# Altium footprint library 2.03-TSSOP封装.PcbLib: 49 footprints (part 2 of 4)
Each footprint in its own frame and in the unit in brackets; x right, y up, seen from the top. Pads: shape width x height; smd on the part's side, far side on the other; paste and mask are expansions set on the pad; w line width, h text height; cw(c..) or ccw(c..) is an arc to the next point about the centre after c.
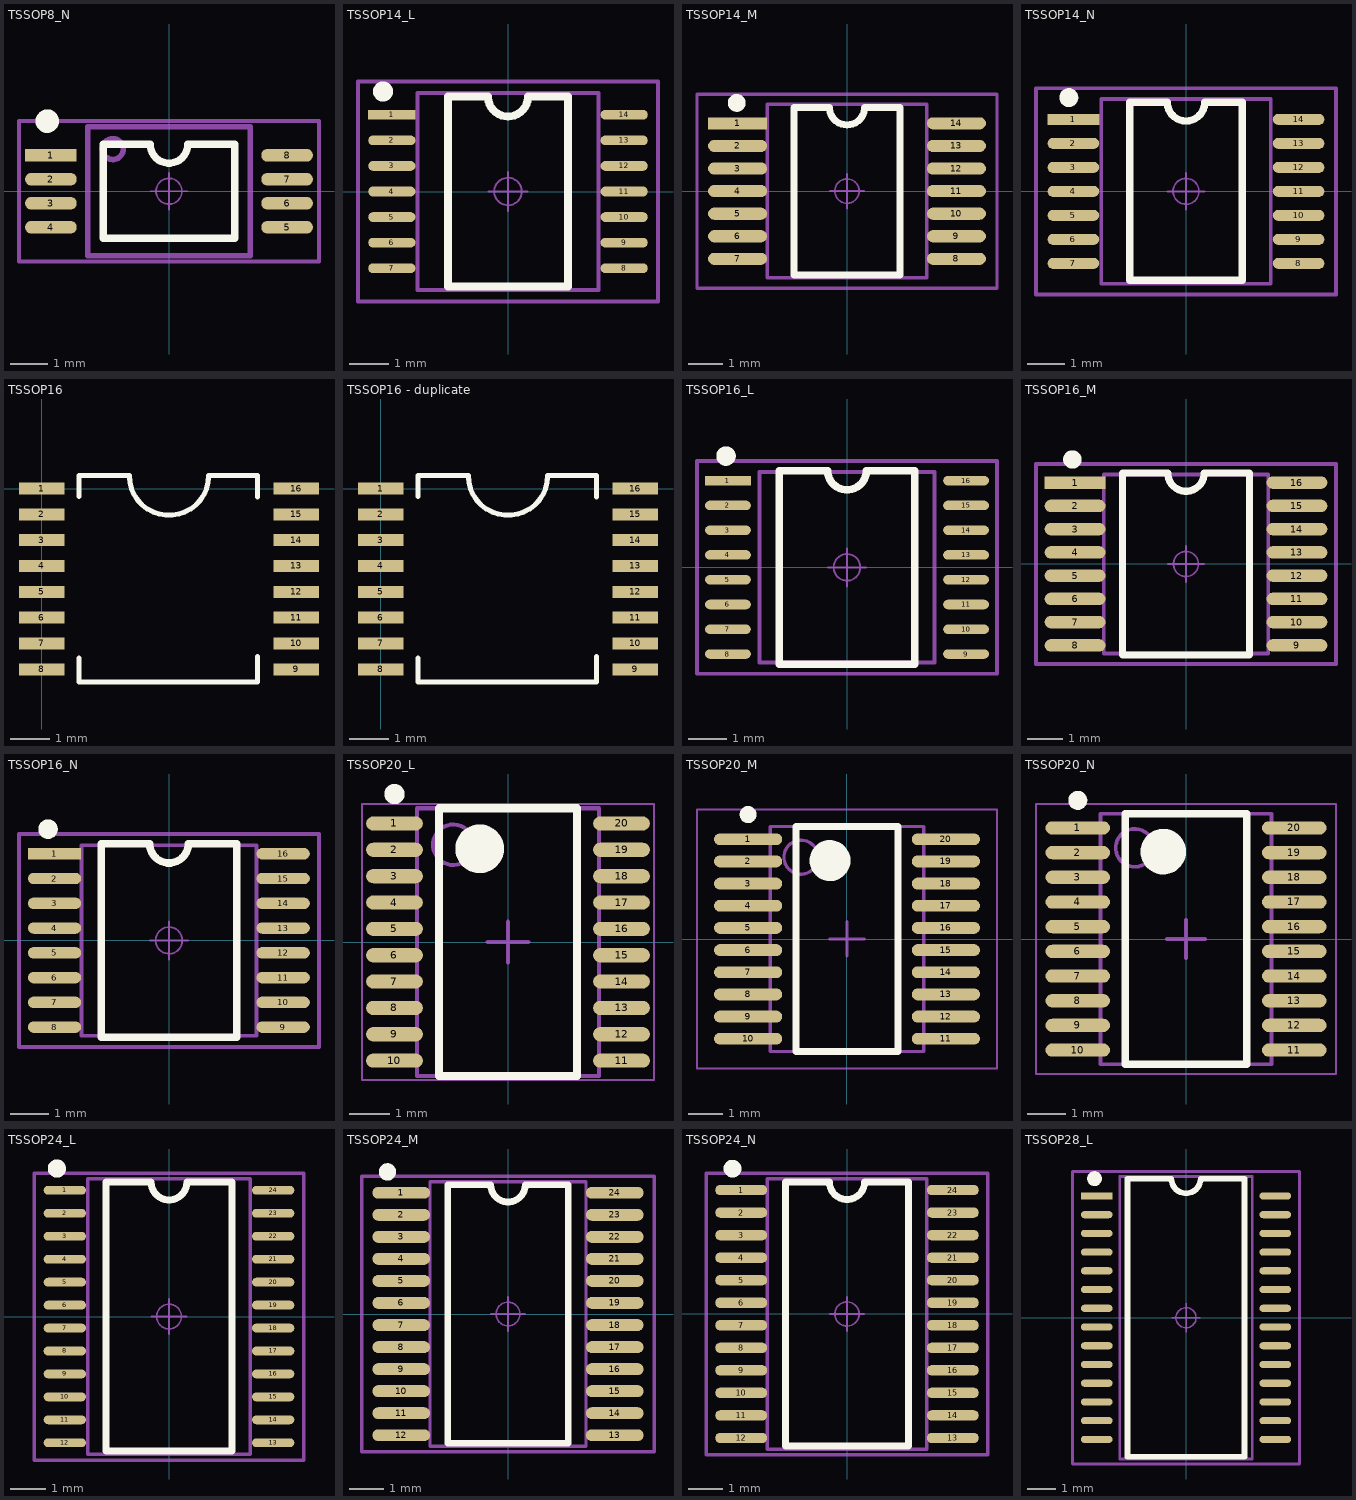
[diagram p1: the footprints below, top view; thin cyan lines are the x and y axes]

## TSSOP8_N [mm] "3*6.4*1.2mm（长宽高）封装库来自淘宝卖家 ID：黄晶宝石"
pads (8):
  rect 1.4x0.35 smd: 1(-3.2,0.975)
  oval 1.4x0.35 smd: 2(-3.2,0.325) 3(-3.2,-0.325) 4(-3.2,-0.975) 5(3.2,-0.975) 6(3.2,-0.325) 7(3.2,0.325) 8(3.2,0.975)
Top Overlay:
  circle w0.381: c-3.3,1.9 r0.127
  lines w0.2: -1.778,-1.27 -1.778,1.27 -0.508,1.27 ccw(c0,1.27) 0.508,1.27 1.778,1.27 1.778,-1.27 -1.778,-1.27
Mechanical 13:
  circle w0.15: c-1.524,1.143 r0.284
  lines w0.15: -2.2,-1.75 -2.2,1.75 2.2,1.75 2.2,-1.75 -2.2,-1.75
Mechanical 15:
  circle w0.05: c0,0 r0.35
  lines w0.05: -0.5,0 0.5,0 ; 0,-0.5 0,0.5
  lines w0.1: -4.064,-1.905 3.429,-1.905 4.064,-1.905 4.064,1.905 -4.064,1.905 -4.064,-1.905
3D body "User Library-TSS0P8.STEP": height 1.09, standoff 0, extent -3.137,-1.565 3.143,1.435

## TSSOP14_L [mm] "5*6.4*1mm（长宽高）封装库来自淘宝卖家 ID：黄晶宝石"
pads (14):
  rect 1.2x0.25 smd: 1(-2.95,1.95)
  oval 1.2x0.25 smd: 2(-2.95,1.3) 3(-2.95,0.65) 4(-2.95,0) 5(-2.95,-0.65) 6(-2.95,-1.3) 7(-2.95,-1.95) 8(2.95,-1.95) 9(2.95,-1.3) 10(2.95,-0.65) 11(2.95,0) 12(2.95,0.65) 13(2.95,1.3) 14(2.95,1.95)
Top Overlay:
  circle w0.254: c-3.175,2.54 r0.13
  lines w0.2: -0.508,2.413 -1.524,2.413 -1.524,-2.413 1.524,-2.413 1.524,2.413 0.508,2.413 ; -0.506,2.373 ccw(c0,2.413) 0.506,2.373
Mechanical 13:
  lines w0.1: -2.3,-2.5 2.3,-2.5 2.3,2.5 -2.3,2.5 -2.3,-2.5
Mechanical 15:
  circle w0.05: c0,0 r0.35
  lines w0.05: -0.5,0 0.5,0 ; 0,-0.5 0,0.5
  lines w0.1: -3.81,-2.794 3.81,-2.794 3.81,2.794 -3.81,2.794 -3.81,-2.794
3D body "TSSOP14.STEP": height 1.03, standoff -0.02, extent -3.202,-2.5 3.202,2.5

## TSSOP14_M [mm] "5*6.4*1mm（长宽高）封装库来自淘宝卖家 ID：黄晶宝石"
pads (14):
  rect 1.7x0.35 smd: 1(-3.15,1.95)
  oval 1.7x0.35 smd: 2(-3.15,1.3) 3(-3.15,0.65) 4(-3.15,0) 5(-3.15,-0.65) 6(-3.15,-1.3) 7(-3.15,-1.95) 8(3.15,-1.95) 9(3.15,-1.3) 10(3.15,-0.65) 11(3.15,0) 12(3.15,0.65) 13(3.15,1.3) 14(3.15,1.95)
Top Overlay:
  circle w0.254: c-3.175,2.54 r0.13
  lines w0.2: -0.508,2.413 -1.524,2.413 -1.524,-2.413 1.524,-2.413 1.524,2.413 0.508,2.413 ; -0.506,2.373 ccw(c0,2.413) 0.506,2.373
Mechanical 13:
  lines w0.1: -2.3,-2.5 2.3,-2.5 2.3,2.5 -2.3,2.5 -2.3,-2.5
Mechanical 15:
  circle w0.05: c0,0 r0.35
  lines w0.05: -0.5,0 0.5,0 ; 0,-0.5 0,0.5
  lines w0.1: -4.318,-2.794 4.318,-2.794 4.318,2.794 -4.318,2.794 -4.318,-2.794
3D body "TSSOP14.STEP": height 1.03, standoff -0.02, extent -3.202,-2.5 3.202,2.5

## TSSOP14_N [mm] "5*6.4*1mm（长宽高）封装库来自淘宝卖家 ID：黄晶宝石"
pads (14):
  rect 1.4x0.3 smd: 1(-3.05,1.95)
  oval 1.4x0.3 smd: 2(-3.05,1.3) 3(-3.05,0.65) 4(-3.05,0) 5(-3.05,-0.65) 6(-3.05,-1.3) 7(-3.05,-1.95) 8(3.05,-1.95) 9(3.05,-1.3) 10(3.05,-0.65) 11(3.05,0) 12(3.05,0.65) 13(3.05,1.3) 14(3.05,1.95)
Top Overlay:
  circle w0.254: c-3.175,2.54 r0.13
  lines w0.2: -0.508,2.413 -1.524,2.413 -1.524,-2.413 1.524,-2.413 1.524,2.413 0.508,2.413 ; -0.506,2.373 ccw(c0,2.413) 0.506,2.373
Mechanical 13:
  lines w0.1: -2.3,-2.5 -2.3,2.5 2.3,2.5 2.3,-2.5 -2.3,-2.5
Mechanical 15:
  circle w0.05: c0,0 r0.35
  lines w0.05: -0.5,0 0.5,0 ; 0,-0.5 0,0.5
  lines w0.1: -4.064,-2.794 -4.064,2.794 4.064,2.794 4.064,-2.794 -4.064,-2.794
3D body "TSSOP14.STEP": height 1.03, standoff -0.02, extent -3.202,-2.5 3.202,2.5

## TSSOP16 [mm] "淘宝ID:黄晶宝石"
pads (16):
  rect 1.15x0.3 smd: 1(0,0) 2(0,-0.65) 3(0,-1.3) 4(0,-1.95) 5(0,-2.6) 6(0,-3.25) 7(0,-3.9) 8(0,-4.55) 9(6.4,-4.55) 10(6.4,-3.9) 11(6.4,-3.25) 12(6.4,-2.6) 13(6.4,-1.95) 14(6.4,-1.3) 15(6.4,-0.65) 16(6.4,0)
Top Overlay:
  lines w0.127: 0.937,-4.27 0.937,-4.875 5.423,-4.875 5.423,-4.229 ; 0.937,-0.206 0.937,0.325 2.2,0.325 ccw(c3.2,0.325) 4.2,0.325 5.423,0.325 5.423,-0.216

## TSSOP16 - duplicate [mm] "淘宝ID:黄晶宝石"
pads (16):
  rect 1.15x0.3 smd: 1(0,0) 2(0,-0.65) 3(0,-1.3) 4(0,-1.95) 5(0,-2.6) 6(0,-3.25) 7(0,-3.9) 8(0,-4.55) 9(6.4,-4.55) 10(6.4,-3.9) 11(6.4,-3.25) 12(6.4,-2.6) 13(6.4,-1.95) 14(6.4,-1.3) 15(6.4,-0.65) 16(6.4,0)
Top Overlay:
  lines w0.127: 0.937,-4.27 0.937,-4.875 5.423,-4.875 5.423,-4.229 ; 0.937,-0.206 0.937,0.325 2.2,0.325 ccw(c3.2,0.325) 4.2,0.325 5.423,0.325 5.423,-0.216

## TSSOP16_L [mm] "5*6.4*1mm（长宽高） 封装库来自淘宝卖家 ID：黄晶宝石"
pads (16):
  rect 1.2x0.25 smd: 1(-3.125,2.275)
  oval 1.2x0.25 smd: 2(-3.125,1.625) 3(-3.125,0.975) 4(-3.125,0.325) 5(-3.125,-0.325) 6(-3.125,-0.975) 7(-3.125,-1.625) 8(-3.125,-2.275) 9(3.125,-2.275) 10(3.125,-1.625) 11(3.125,-0.975) 12(3.125,-0.325) 13(3.125,0.325) 14(3.125,0.975) 15(3.125,1.625) 16(3.125,2.275)
Top Overlay:
  circle w0.254: c-3.175,2.921 r0.13
  lines w0.2: -1.778,-2.54 -1.778,2.54 -0.508,2.54 ccw(c0,2.54) 0.508,2.54 1.778,2.54 1.778,-2.54 -1.778,-2.54
Mechanical 13:
  lines w0.1: -2.3,-2.5 2.3,-2.5 2.3,2.5 -2.3,2.5 -2.3,-2.5
Mechanical 15:
  circle w0.05: c0,0 r0.35
  lines w0.05: -0.5,0 0.5,0 ; 0,-0.5 0,0.5
  lines w0.1: -3.937,-2.794 -3.937,2.794 3.937,2.794 3.937,-2.794 -3.937,-2.794
3D body "TSSOP16.STEP": height 1.03, standoff -0.02, extent -3.202,-2.5 3.202,2.5

## TSSOP16_M [mm] "5*6.4*1mm（长宽高） 封装库来自淘宝卖家 ID：黄晶宝石"
pads (16):
  rect 1.7x0.35 smd: 1(-3.1,2.275)
  oval 1.7x0.35 smd: 2(-3.1,1.625) 3(-3.1,0.975) 4(-3.1,0.325) 5(-3.1,-0.325) 6(-3.1,-0.975) 7(-3.1,-1.625) 8(-3.1,-2.275) 9(3.1,-2.275) 10(3.1,-1.625) 11(3.1,-0.975) 12(3.1,-0.325) 13(3.1,0.325) 14(3.1,0.975) 15(3.1,1.625) 16(3.1,2.275)
Top Overlay:
  circle w0.254: c-3.175,2.921 r0.13
  lines w0.2: -1.778,-2.54 1.778,-2.54 1.778,2.54 0.508,2.54 cw(c0,2.54) -0.508,2.54 -1.778,2.54 -1.778,-2.54
Mechanical 13:
  lines w0.1: -2.3,-2.5 -2.3,2.5 2.3,2.5 2.3,-2.5 -2.3,-2.5
Mechanical 15:
  circle w0.05: c0,0 r0.35
  lines w0.05: -0.5,0 0.5,0 ; 0,-0.5 0,0.5
  lines w0.1: -4.191,-2.794 -4.191,2.794 4.191,2.794 4.191,-2.794 -4.191,-2.794
3D body "TSSOP16.STEP": height 1.03, standoff -0.02, extent -3.202,-2.5 3.202,2.5

## TSSOP16_N [mm] "5*6.4*1mm（长宽高） 封装库来自淘宝卖家 ID：黄晶宝石"
pads (16):
  rect 1.4x0.3 smd: 1(-3.004,2.275)
  oval 1.4x0.3 smd: 2(-3.004,1.625) 3(-3.004,0.975) 4(-3.004,0.325) 5(-3.004,-0.325) 6(-3.004,-0.975) 7(-3.004,-1.625) 8(-3.004,-2.275) 9(2.996,-2.275) 10(2.996,-1.625) 11(2.996,-0.975) 12(2.996,-0.325) 13(2.996,0.325) 14(2.996,0.975) 15(2.996,1.625) 16(2.996,2.275)
Top Overlay:
  circle w0.254: c-3.175,2.921 r0.13
  lines w0.2: -1.778,-2.54 -1.778,2.54 -0.508,2.54 ccw(c0,2.54) 0.508,2.54 1.778,2.54 1.778,-2.54 -1.778,-2.54
Mechanical 13:
  lines w0.1: -2.3,-2.5 -2.3,2.5 2.3,2.5 2.3,-2.5 -2.3,-2.5
Mechanical 15:
  circle w0.05: c0,0 r0.35
  lines w0.05: -0.5,0 0.5,0 ; 0,-0.5 0,0.5
  lines w0.1: -3.937,-2.794 3.937,-2.794 3.937,2.794 -3.937,2.794 -3.937,-2.794
3D body "TSSOP16.STEP": height 1.03, standoff -0.02, extent -3.202,-2.5 3.202,2.5

## TSSOP20_L [mm] "TSOP, 20-Leads, Body 6.5x4.4mm, Pitch 0.65mm, IPC High Density"
height 1.2
pads (20):
  oval 1.4x0.35 smd: 1(-2.8,2.925) 2(-2.8,2.275) 3(-2.8,1.625) 4(-2.8,0.975) 5(-2.8,0.325) 6(-2.8,-0.325) 7(-2.8,-0.975) 8(-2.8,-1.625) 9(-2.8,-2.275) 10(-2.8,-2.925) 11(2.8,-2.925) 12(2.8,-2.275) 13(2.8,-1.625) 14(2.8,-0.975) 15(2.8,-0.325) 16(2.8,0.325) 17(2.8,0.975) 18(2.8,1.625) 19(2.8,2.275) 20(2.8,2.925)
Top Overlay:
  circle w0.25: c-2.8,3.65 r0.125
  circle w0.6: c-0.7,2.3 r0.3
  lines w0.2: -1.7,-3.3 -1.7,3.3 1.7,3.3 1.7,-3.3 -1.7,-3.3
Mechanical 13:
  circle w0.1: c-1.35,2.4 r0.5
  lines w0.1: -2.25,-3.3 -2.25,3.3 2.25,3.3 2.25,-3.3 -2.25,-3.3
Mechanical 15:
  lines w0.05: -3.6,-3.4 -3.6,3.4 3.6,3.4 3.6,-3.4 -3.6,-3.4
  lines w0.1: -0.5,0 0.5,0 ; 0,-0.5 0,0.5
3D body "TSSOP20.STEP": height 1.03, standoff -0.02, extent -3.177,-3.25 3.227,3.25

## TSSOP20_M [mm] "TSOP, 20-Leads, Body 6.5x4.4mm, Pitch 0.65mm, IPC Low Density"
height 1.2
pads (20):
  oval 2x0.35 smd: 1(-2.9,2.925) 2(-2.9,2.275) 3(-2.9,1.625) 4(-2.9,0.975) 5(-2.9,0.325) 6(-2.9,-0.325) 7(-2.9,-0.975) 8(-2.9,-1.625) 9(-2.9,-2.275) 10(-2.9,-2.925) 11(2.9,-2.925) 12(2.9,-2.275) 13(2.9,-1.625) 14(2.9,-0.975) 15(2.9,-0.325) 16(2.9,0.325) 17(2.9,0.975) 18(2.9,1.625) 19(2.9,2.275) 20(2.9,2.925)
Top Overlay:
  circle w0.6: c-0.5,2.3 r0.3
  circle w0.25: c-2.9,3.65 r0.125
  lines w0.2: -1.5,-3.3 1.5,-3.3 1.5,3.3 -1.5,3.3 -1.5,-3.3
Mechanical 13:
  circle w0.1: c-1.35,2.4 r0.5
  lines w0.1: -2.25,-3.3 2.25,-3.3 2.25,3.3 -2.25,3.3 -2.25,-3.3
Mechanical 15:
  lines w0.05: -4.4,-3.8 4.4,-3.8 4.4,3.8 -4.4,3.8 -4.4,-3.8
  lines w0.1: -0.5,0 0.5,0 ; 0,-0.5 0,0.5
3D body "TSSOP20.STEP": height 1.03, standoff -0.02, extent -3.252,-3.25 3.152,3.25

## TSSOP20_N [mm] "TSOP, 20-Leads, Body 6.5x4.4mm, Pitch 0.65mm, IPC Medium Density"
height 1.2
pads (20):
  oval 1.7x0.35 smd: 1(-2.85,2.925) 2(-2.85,2.275) 3(-2.85,1.625) 4(-2.85,0.975) 5(-2.85,0.325) 6(-2.85,-0.325) 7(-2.85,-0.975) 8(-2.85,-1.625) 9(-2.85,-2.275) 10(-2.85,-2.925) 11(2.85,-2.925) 12(2.85,-2.275) 13(2.85,-1.625) 14(2.85,-0.975) 15(2.85,-0.325) 16(2.85,0.325) 17(2.85,0.975) 18(2.85,1.625) 19(2.85,2.275) 20(2.85,2.925)
Top Overlay:
  circle w0.25: c-2.85,3.65 r0.125
  circle w0.6: c-0.6,2.3 r0.3
  lines w0.2: -1.6,-3.3 -1.6,3.3 1.6,3.3 1.6,-3.3 -1.6,-3.3
Mechanical 13:
  circle w0.1: c-1.35,2.4 r0.5
  lines w0.1: -2.25,-3.3 -2.25,3.3 2.25,3.3 2.25,-3.3 -2.25,-3.3
Mechanical 15:
  lines w0.05: -3.95,-3.55 -3.95,3.55 3.95,3.55 3.95,-3.55 -3.95,-3.55
  lines w0.1: -0.5,0 0.5,0 ; 0,-0.5 0,0.5
3D body "TSSOP20.STEP": height 1.03, standoff -0.02, extent -3.202,-3.225 3.202,3.275

## TSSOP24_L [mm] "7.8*6.4*1mm（长宽高） 封装库来自淘宝卖家 ID：黄晶宝石"
pads (24):
  oval 1.2x0.25 smd: 1(-2.95,3.575) 2(-2.95,2.925) 3(-2.95,2.275) 4(-2.95,1.625) 5(-2.95,0.975) 6(-2.95,0.325) 7(-2.95,-0.325) 8(-2.95,-0.975) 9(-2.95,-1.625) 10(-2.95,-2.275) 11(-2.95,-2.925) 12(-2.95,-3.575) 13(2.95,-3.575) 14(2.95,-2.925) 15(2.95,-2.275) 16(2.95,-1.625) 17(2.95,-0.975) 18(2.95,-0.325) 19(2.95,0.325) 20(2.95,0.975) 21(2.95,1.625) 22(2.95,2.275) 23(2.95,2.925) 24(2.95,3.575)
Top Overlay:
  circle w0.254: c-3.175,4.191 r0.13
  lines w0.2: -1.778,-3.81 1.778,-3.81 1.778,3.81 0.508,3.81 cw(c0,3.81) -0.508,3.81 -1.778,3.81 -1.778,-3.81
Mechanical 13:
  lines w0.1: -2.3,-3.9 -2.3,3.9 2.3,3.9 2.3,-3.9 -2.3,-3.9
Mechanical 15:
  circle w0.05: c0,0 r0.35
  lines w0.05: -0.5,0 0.5,0 ; 0,-0.5 0,0.5
  lines w0.1: -3.81,-4.064 -3.81,4.064 3.81,4.064 3.81,-4.064 -3.81,-4.064
3D body "TSSOP24.STEP": height 1.03, standoff -0.02, extent -3.202,-3.9 3.202,3.9

## TSSOP24_M [mm] "7.8*6.4*1mm（长宽高） 封装库来自淘宝卖家 ID：黄晶宝石"
pads (24):
  oval 1.7x0.35 smd: 1(-3.15,3.575) 2(-3.15,2.925) 3(-3.15,2.275) 4(-3.15,1.625) 5(-3.15,0.975) 6(-3.15,0.325) 7(-3.15,-0.325) 8(-3.15,-0.975) 9(-3.15,-1.625) 10(-3.15,-2.275) 11(-3.15,-2.925) 12(-3.15,-3.575) 13(3.15,-3.575) 14(3.15,-2.925) 15(3.15,-2.275) 16(3.15,-1.625) 17(3.15,-0.975) 18(3.15,-0.325) 19(3.15,0.325) 20(3.15,0.975) 21(3.15,1.625) 22(3.15,2.275) 23(3.15,2.925) 24(3.15,3.575)
Top Overlay:
  circle w0.254: c-3.556,4.191 r0.13
  lines w0.2: -1.778,-3.81 1.778,-3.81 1.778,3.81 0.508,3.81 cw(c0,3.81) -0.508,3.81 -1.778,3.81 -1.778,-3.81
Mechanical 13:
  lines w0.1: -2.3,-3.9 2.3,-3.9 2.3,3.9 -2.3,3.9 -2.3,-3.9
Mechanical 15:
  circle w0.05: c0,0 r0.35
  lines w0.05: -0.5,0 0.5,0 ; 0,-0.5 0,0.5
  lines w0.1: -4.318,-4.064 4.318,-4.064 4.318,4.064 -4.318,4.064 -4.318,-4.064
3D body "TSSOP24.STEP": height 1.03, standoff -0.02, extent -3.202,-3.9 3.202,3.9

## TSSOP24_N [mm] "7.8*6.4*1mm（长宽高）   封装库来自淘宝卖家 ID：黄晶宝石"
pads (24):
  oval 1.5x0.3 smd: 1(-3.05,3.575) 2(-3.05,2.925) 3(-3.05,2.275) 4(-3.05,1.625) 5(-3.05,0.975) 6(-3.05,0.325) 7(-3.05,-0.325) 8(-3.05,-0.975) 9(-3.05,-1.625) 10(-3.05,-2.275) 11(-3.05,-2.925) 12(-3.05,-3.575) 13(3.05,-3.575) 14(3.05,-2.925) 15(3.05,-2.275) 16(3.05,-1.625) 17(3.05,-0.975) 18(3.05,-0.325) 19(3.05,0.325) 20(3.05,0.975) 21(3.05,1.625) 22(3.05,2.275) 23(3.05,2.925) 24(3.05,3.575)
Top Overlay:
  circle w0.254: c-3.302,4.191 r0.13
  lines w0.2: -1.778,-3.81 -1.778,3.81 -0.508,3.81 ccw(c0,3.81) 0.508,3.81 1.778,3.81 1.778,-3.81 -1.778,-3.81
Mechanical 13:
  lines w0.1: -2.3,-3.9 -2.3,3.9 2.3,3.9 2.3,-3.9 -2.3,-3.9
Mechanical 15:
  circle w0.05: c0,0 r0.35
  lines w0.05: -0.5,0 0.5,0 ; 0,-0.5 0,0.5
  lines w0.1: -4.064,-4.064 -4.064,4.064 4.064,4.064 4.064,-4.064 -4.064,-4.064
3D body "TSSOP24.STEP": height 1.03, standoff -0.02, extent -3.202,-3.9 3.202,3.9

## TSSOP28_L [mm] "9.8*6.4*1mm（长宽高）  封装库来自淘宝卖家 ID：黄晶宝石"
pads (28):
  rect 1.1x0.25 smd: 1(-3.1,4.225)
  oval 1.1x0.25 smd: 2(-3.1,3.575) 3(-3.1,2.925) 4(-3.1,2.275) 5(-3.1,1.625) 6(-3.1,0.975) 7(-3.1,0.325) 8(-3.1,-0.325) 9(-3.1,-0.975) 10(-3.1,-1.625) 11(-3.1,-2.275) 12(-3.1,-2.925) 13(-3.1,-3.575) 14(-3.1,-4.225) 15(3.1,-4.225) 16(3.1,-3.575) 17(3.1,-2.925) 18(3.1,-2.275) 19(3.1,-1.625) 20(3.1,-0.975) 21(3.1,-0.325) 22(3.1,0.325) 23(3.1,0.975) 24(3.1,1.625) 25(3.1,2.275) 26(3.1,2.925) 27(3.1,3.575) 28(3.1,4.225)
Top Overlay:
  circle w0.254: c-3.175,4.826 r0.13
  lines w0.2: -2.032,-4.826 2.032,-4.826 2.032,4.826 0.508,4.826 cw(c0,4.826) -0.508,4.826 -2.032,4.826 -2.032,-4.826
Mechanical 13:
  lines w0.1: -2.3,-4.9 -2.3,4.9 2.3,4.9 2.3,-4.9 -2.3,-4.9
Mechanical 15:
  circle w0.05: c0,0 r0.35
  lines w0.05: -0.5,0 0.5,0 ; 0,-0.5 0,0.5
  lines w0.1: -3.937,-5.08 -3.937,5.08 3.937,5.08 3.937,-5.08 -3.937,-5.08
3D body "TSSOP28.STEP": height 1.03, standoff -0.02, extent -3.202,-4.9 3.202,4.9